# Altium schematic symbol library SamacSys.SchLib: 1311 symbols (part 14 of 14)
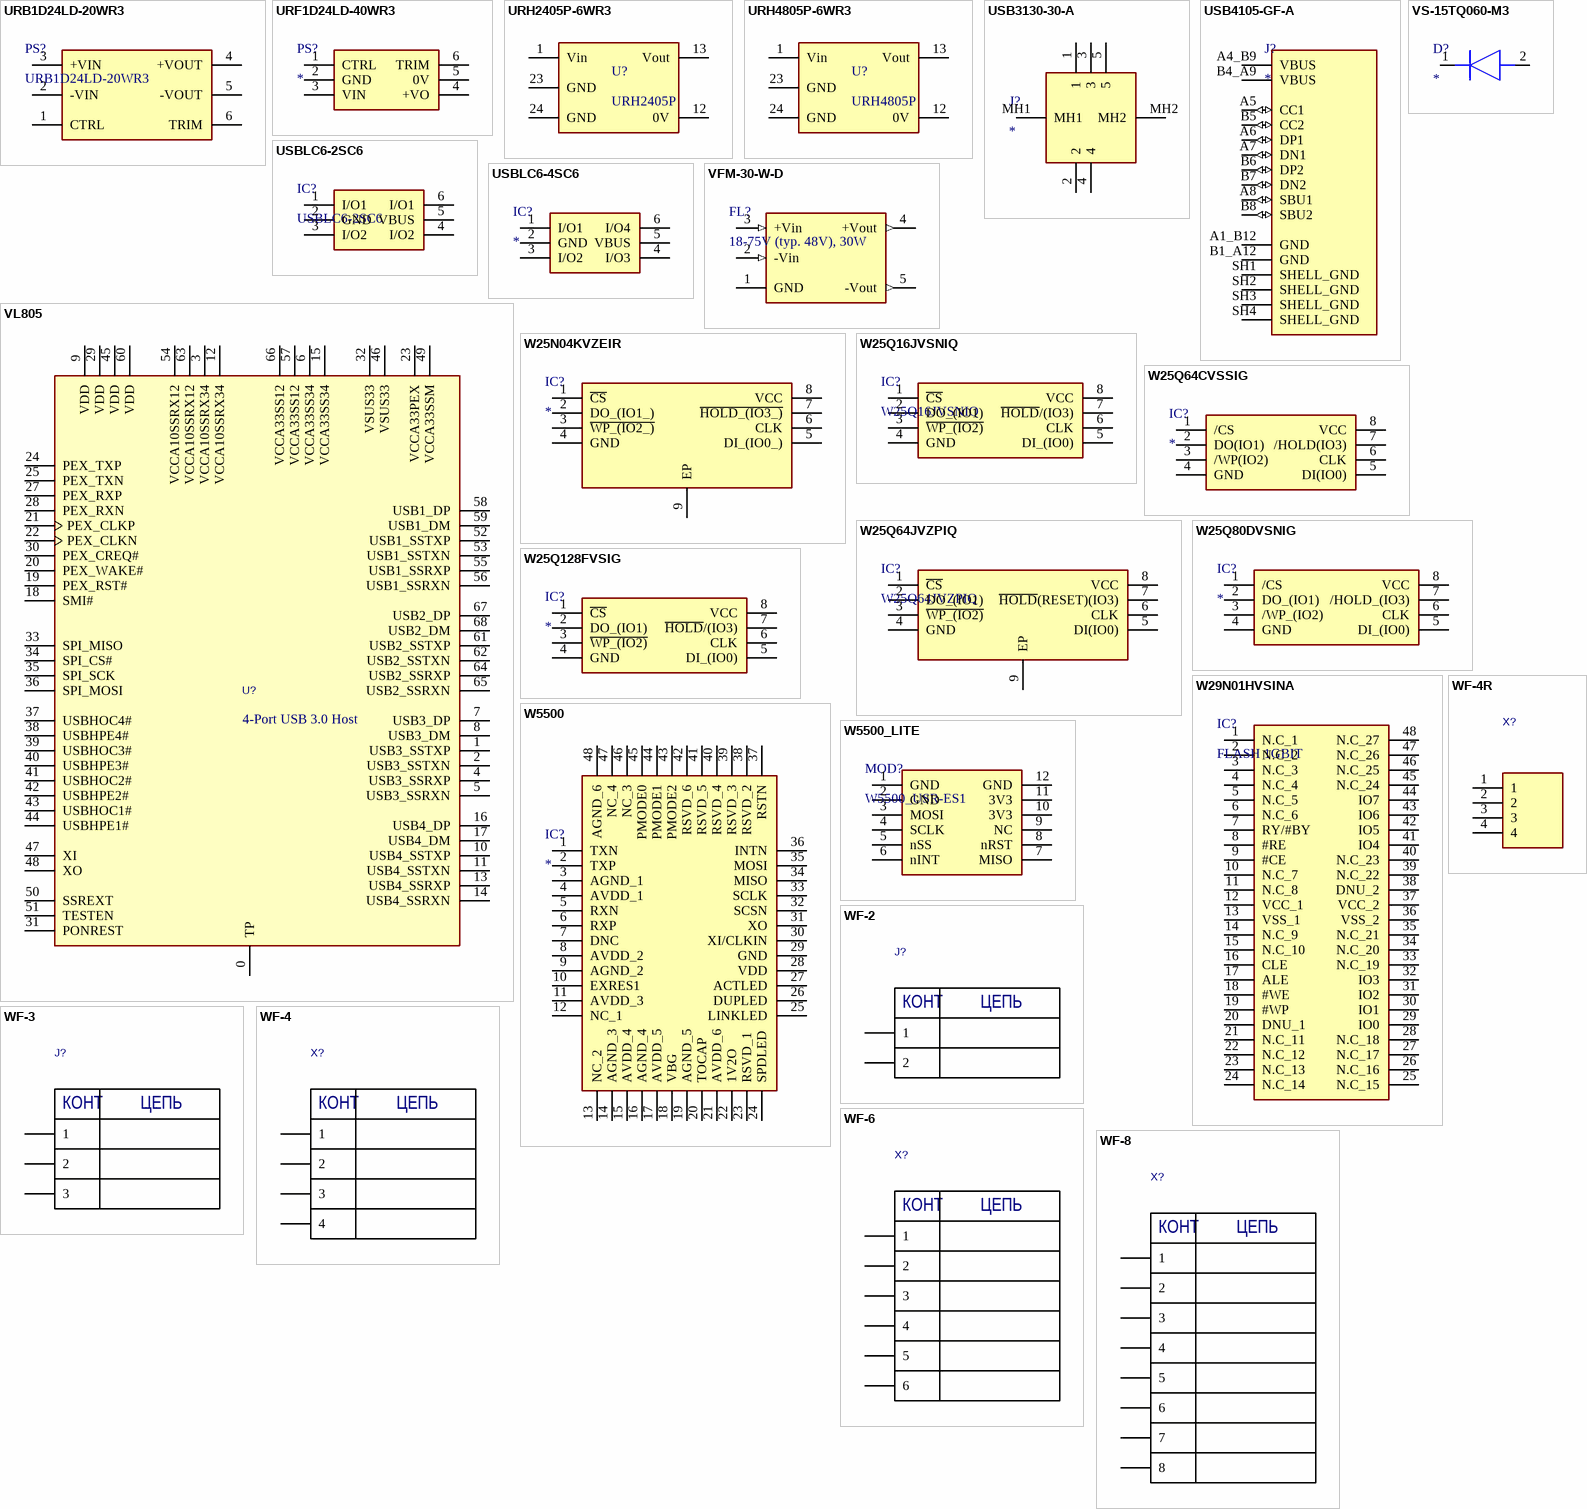
[diagram p63: symbols URB1D24LD-20WR3 to WF-8]

## W25Q128FVSIG
designator IC?
Integrated Circuit; Manufacturer_Name: Winbond; Manufacturer_Part_Number: W25Q128FVSIG; Datasheet Link: https://www.winbond.com/resource-files/w25q128fv rev.m 05132016 kms.pdf; Height: 2.16mm; Mouser Part Number: N/A; Mouser Price/Stock: https://www.mouser.co.uk/ProductDetail/Winbond/W25Q128FVSIG?qs=rkhjVJ6%2F3EIwu4pV702YLQ%3D%3D; Arrow Part Number: W25Q128FVSIG; Arrow Price/Stock: https://www.arrow.com/en/products/w25q128fvsig/winbond-electronics
footprint SOIC127P790X216-8N
pins: 1 ~{CS}, 2 DO_(IO1), 3 ~{WP_(IO2)}, 4 GND, 5 DI_(IO0), 6 CLK, 7 ~{HOLD}/(IO3), 8 VCC

## W29N01HVSINA
designator IC?, comment FLASH 1GBIT
IC FLASH 1GBIT 48-TSOP; Manufacturer_Name: Winbond; Manufacturer_Part_Number: W29N01HVSINA TR; Datasheet Link: https://www.winbond.com/resource-files/W29N01HVxxNA_RevD.pdf; Height: 1.2mm; Mouser Part Number: 454-W29N01HVSINATR; Mouser Price/Stock: https://www.mouser.co.uk/ProductDetail/Winbond/W29N01HVSINA-TR?qs=qSfuJ%252Bfl%2Fd5wnqeklVMn%252Bw%3D%3D; Arrow Part Number: W29N01HVSINA TR; Arrow Price/Stock: https://www.arrow.com/en/products/w29n01hvsina-tr/winbond-electronics?utm_currency=USD&region=nac
footprint SOP50P2000X120-48N
pins: 1 N.C_1, 2 N.C_2, 3 N.C_3, 4 N.C_4, 5 N.C_5, 6 N.C_6, 7 RY/#BY, 8 #RE, 9 #CE, 10 N.C_7, 11 N.C_8, 12 VCC_1, 13 VSS_1, 14 N.C_9, 15 N.C_10, 16 CLE, 17 ALE, 18 #WE, 19 #WP, 20 DNU_1, 21 N.C_11, 22 N.C_12, 23 N.C_13, 24 N.C_14, 25 N.C_15, 26 N.C_16, 27 N.C_17, 28 N.C_18, 29 IO0, 30 IO1, 31 IO2, 32 IO3, 33 N.C_19, 34 N.C_20, 35 N.C_21, 36 VSS_2, 37 VCC_2, 38 DNU_2, 39 N.C_22, 40 N.C_23, 41 IO4, 42 IO5, 43 IO6, 44 IO7, 45 N.C_24, 46 N.C_25, 47 N.C_26, 48 N.C_27

## W5500
designator IC?
Integrated Circuit; Manufacturer_Name: WIZnet Inc; Manufacturer_Part_Number: W5500; Datasheet Link: http://wizwiki.net/wiki/lib/exe/fetch.php?media=products:w5500:w5500_ds_v106e_141230.pdf; Height: 1.6mm; Mouser Part Number: 950-W5500; Mouser Price/Stock: https://www.mouser.co.uk/ProductDetail/WIZnet/W5500?qs=2vh%252B45pPFtzthUpYPd4pqA%3D%3D
footprint QFP50P900X900X160-48N
pins: 1 TXN, 2 TXP, 3 AGND_1, 4 AVDD_1, 5 RXN, 6 RXP, 7 DNC, 8 AVDD_2, 9 AGND_2, 10 EXRES1, 11 AVDD_3, 12 NC_1, 13 NC_2, 14 AGND_3, 15 AVDD_4, 16 AGND_4, 17 AVDD_5, 18 VBG, 19 AGND_5, 20 TOCAP, 21 AVDD_6, 22 1V2O, 23 RSVD_1, 24 SPDLED, 25 LINKLED, 26 DUPLED, 27 ACTLED, 28 VDD, 29 GND, 30 XI/CLKIN, 31 XO, 32 SCSN, 33 SCLK, 34 MISO, 35 MOSI, 36 INTN, 37 RSTN, 38 RSVD_2, 39 RSVD_3, 40 RSVD_4, 41 RSVD_5, 42 RSVD_6, 43 PMODE2, 44 PMODE1, 45 PMODE0, 46 NC_3, 47 NC_4, 48 AGND_6

## W5500_LITE
designator MOD?, comment W5500_USR-ES1
Ethernet module W5500; Manufacturer_Name: WIZnet Inc; Datasheet Link: http://wizwiki.net/wiki/lib/exe/fetch.php?media=products:w5500:w5500_ds_v106e_141230.pdf; Height: 1.6mm; Manufacturer_Part_Number: W5500; Mouser Part Number: 950-W5500; Mouser Price/Stock: https://www.mouser.co.uk/ProductDetail/WIZnet/W5500?qs=2vh%252B45pPFtzthUpYPd4pqA%3D%3D
footprint W5500_LITE
pins: 1 GND, 2 GND, 3 MOSI, 4 SCLK, 5 nSS, 6 nINT, 7 MISO, 8 nRST, 9 NC, 10 3V3, 11 3V3, 12 GND

## WF-2
designator J?  (value not drawn)
Connector; Manufacturer: Connfly; Part Number: WF-6; Part Number1: DS1070-6 M; System: Connector
footprint WF-2 (Footprint not found)
pins: 1, 2
text: КОНТ; ЦЕПЬ

## WF-3
designator J?  (value not drawn)
Connector; Manufacturer: Connfly; Part Number: WF-6; Part Number1: DS1070-6 M; System: Connector
footprint WF-3
pins: 1, 2, 3
text: КОНТ; ЦЕПЬ

## WF-4
designator X?  (value not drawn)
Connector; Manufacturer: Connfly; Part Number: WF-6; Part Number1: DS1070-6 M; System: Connector
footprint WF-4
pins: 1, 2, 3, 4
text: КОНТ; ЦЕПЬ

## WF-4R
designator X?  (value not drawn)
Connector; Manufacturer: Connfly; Part Number: PBD-6; Part Number1: DS-1023 - 2x3; System: Connector
footprint WF-4R (Footprint not found)
pins: 1, 2, 3, 4

## WF-6
designator X?  (value not drawn)
Connector; Manufacturer: Connfly; Part Number1: DS1070-6 M; System: Connector; Part Number: WF-6
footprint WF-6 (Footprint not found)
pins: 1, 2, 3, 4, 5, 6
text: КОНТ; ЦЕПЬ

## WF-8
designator X?  (value not drawn)
Connector; Manufacturer: Connfly; Part Number1: DS1070-8 M; System: Connector; Part Number: WF-8
footprint WF-8
pins: 1, 2, 3, 4, 5, 6, 7, 8
text: КОНТ; ЦЕПЬ

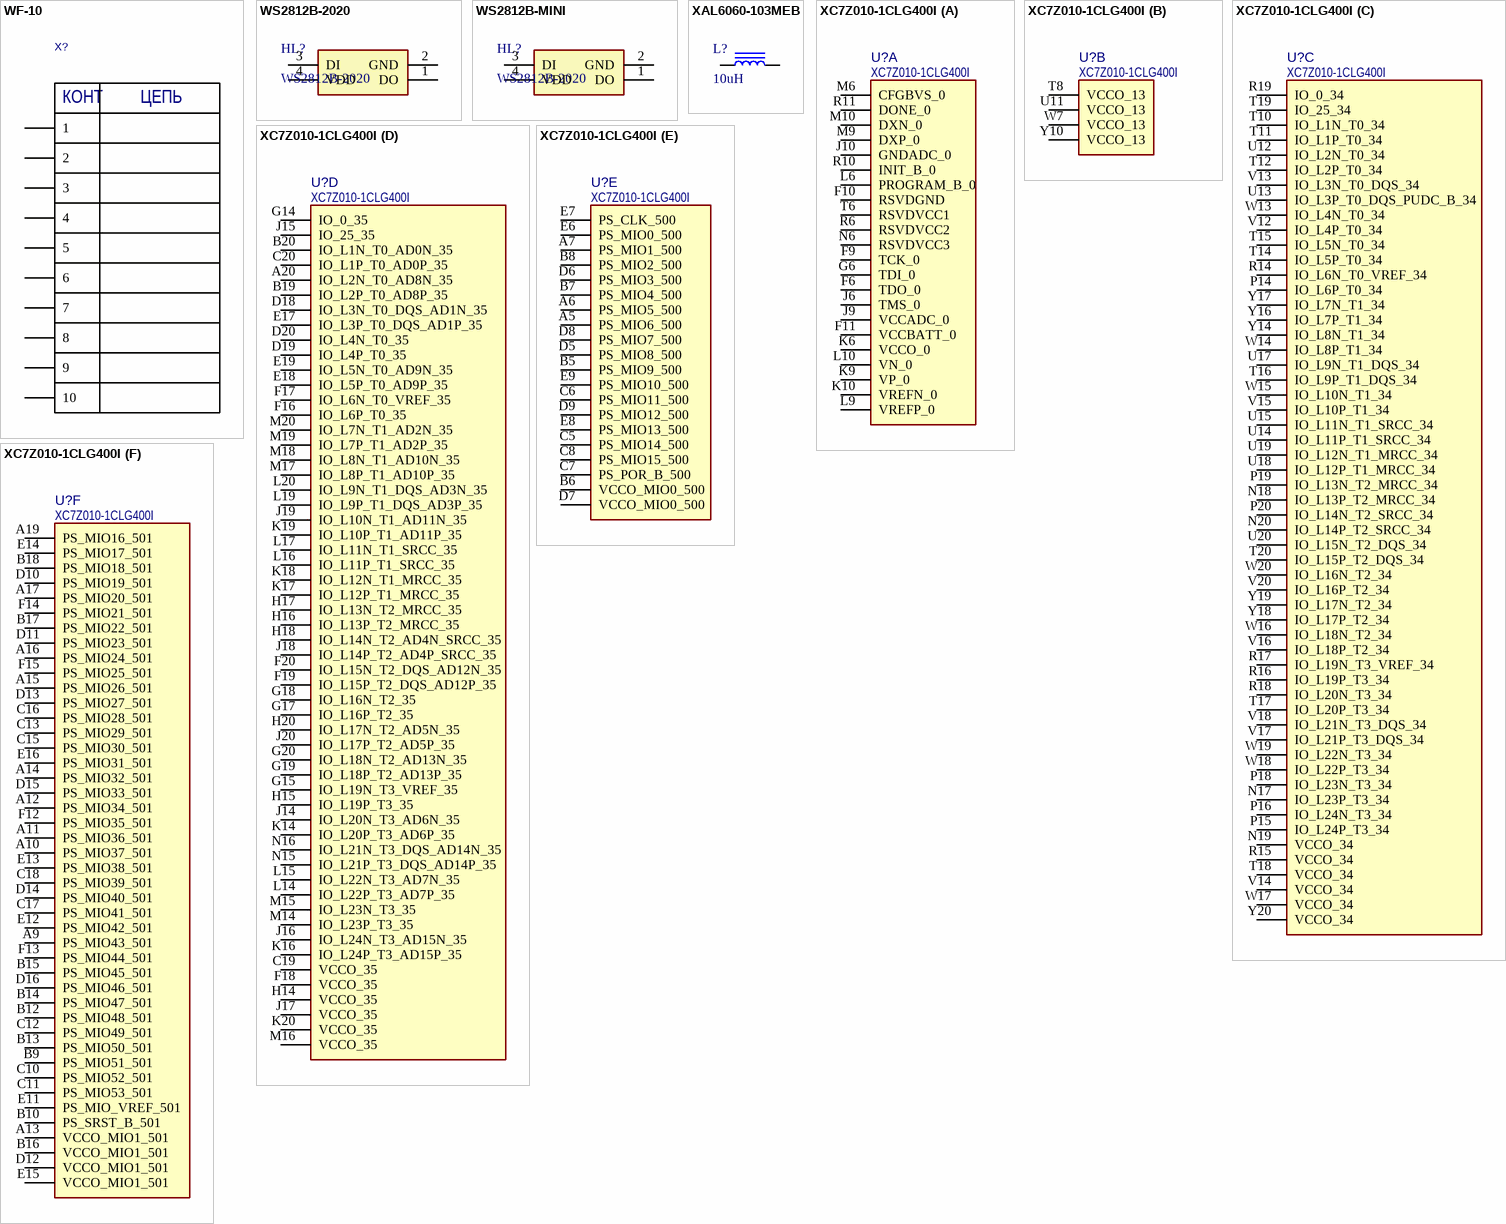
[diagram p49: symbols WF-10 to XC7Z010-1CLG400I]

## WF-10
designator X?  (value not drawn)
Connector; Manufacturer: Connfly; Part Number1: DS1070-10 M; System: Connector; Part Number: WF-10
footprint WF-10 (Footprint not found)
pins: 1, 2, 3, 4, 5, 6, 7, 8, 9, 10
text: КОНТ; ЦЕПЬ

## WS2812B-2020
designator HL?
LED ADDR 2x2mm; Manufacturer_Name: Worldsemi; Manufacturer_Part_Number: WS2812-2020; Datasheet Link: http://www.world-semi.com/DownLoadFile/140; Height: 0.84mm
footprint WS28122020
pins: 1 DO, 2 GND, 3 DI, 4 VDD

## WS2812B-MINI
designator HL?, comment WS2812B-2020
LED ADDR 3,5x3,5mm; Manufacturer_Name: Worldsemi; Manufacturer_Part_Number: WS2812B-MINI; Datasheet Link: http://www.world-semi.com/DownLoadFile/140; Height: 0.84mm
footprint WS28123535 (Footprint not found)
pins: 1 DO, 2 GND, 3 DI, 4 VDD

## XAL6060-103MEB
designator L?, comment 10uH
SMT Inductor; Value: 10uH
footprint XAL6060-103MEB
pins: 1, 2

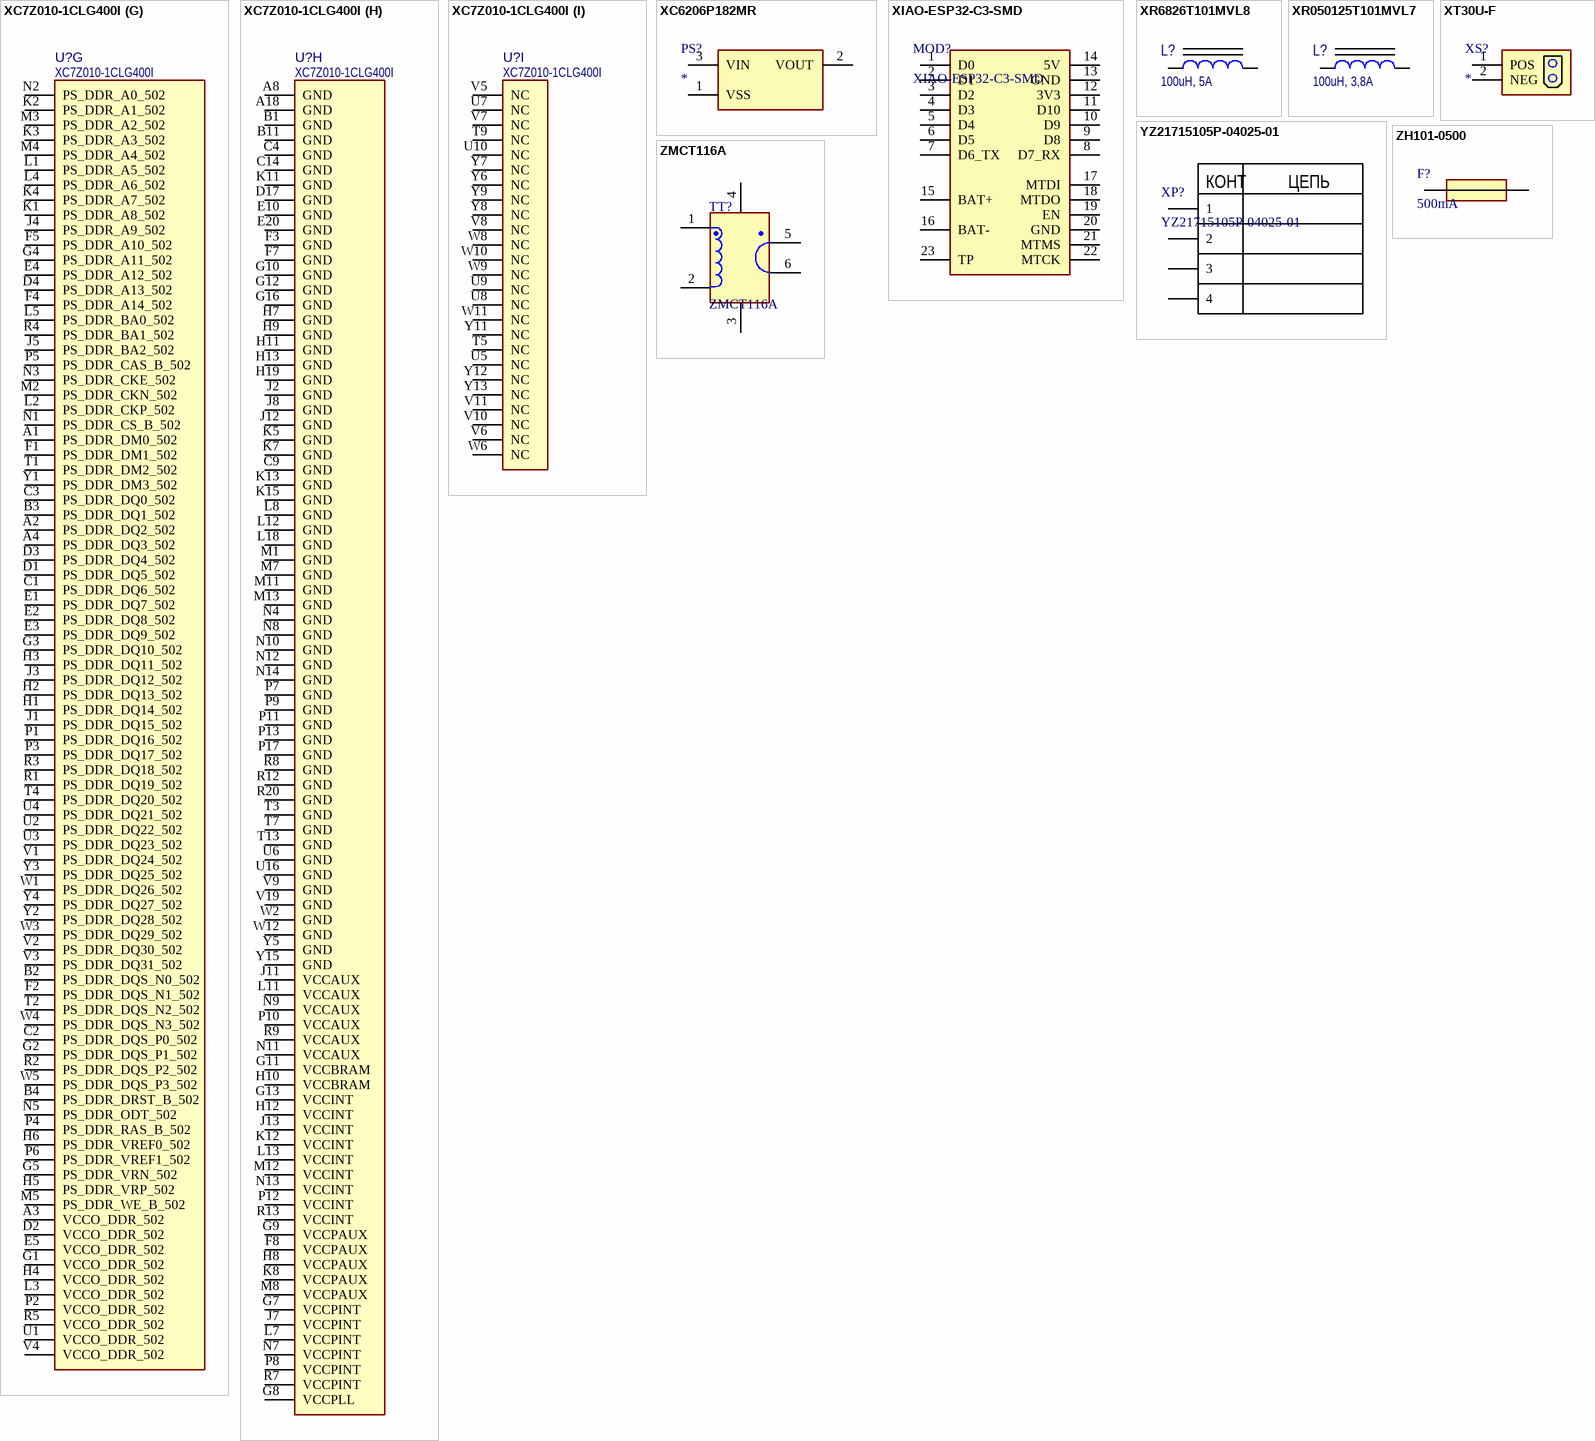
[diagram p50: symbols XC7Z010-1CLG400I to ZMCT116A]

## XC7Z010-1CLG400I
designator U?
Dual ARM® Cortex®-A9 MPCore™ with CoreSight™ System On Chip (SOC) IC Zynq®-7000 Artix™-7 FPGA, 28K Logic Cells 667MHz 400-CSPBGA (17x17); desc: xc7z010clg400; Value: XC7Z010-1CLG400I
footprint CLG400 (CLG400 (XC7Z010, XA7Z010, XC7Z020, XA7Z020), 0.8mm pitch)
part A pins: F6 TDO_0, F9 TCK_0, F10 RSVDGND, F11 VCCBATT_0, G6 TDI_0, J6 TMS_0, J9 VCCADC_0, J10 GNDADC_0, K6 VCCO_0, K9 VP_0, K10 VREFN_0, L6 PROGRAM_B_0, L9 VREFP_0, L10 VN_0, M6 CFGBVS_0, M9 DXP_0, M10 DXN_0, N6 RSVDVCC3, R6 RSVDVCC2, R10 INIT_B_0, R11 DONE_0, T6 RSVDVCC1
part B pins: T8 VCCO_13, U11 VCCO_13, W7 VCCO_13, Y10 VCCO_13
part C pins: N17 IO_L23P_T3_34, N18 IO_L13P_T2_MRCC_34, N19 VCCO_34, N20 IO_L14P_T2_SRCC_34, P14 IO_L6P_T0_34, P15 IO_L24P_T3_34, P16 IO_L24N_T3_34, P18 IO_L23N_T3_34, P19 IO_L13N_T2_MRCC_34, P20 IO_L14N_T2_SRCC_34, R14 IO_L6N_T0_VREF_34, R15 VCCO_34, R16 IO_L19P_T3_34, R17 IO_L19N_T3_VREF_34, R18 IO_L20N_T3_34, R19 IO_0_34, T10 IO_L1N_T0_34, T11 IO_L1P_T0_34, T12 IO_L2P_T0_34, T14 IO_L5P_T0_34, T15 IO_L5N_T0_34, T16 IO_L9P_T1_DQS_34, T17 IO_L20P_T3_34, T18 VCCO_34, T19 IO_25_34, T20 IO_L15P_T2_DQS_34, U12 IO_L2N_T0_34, U13 IO_L3P_T0_DQS_PUDC_B_34, U14 IO_L11P_T1_SRCC_34, U15 IO_L11N_T1_SRCC_34, U17 IO_L9N_T1_DQS_34, U18 IO_L12P_T1_MRCC_34, U19 IO_L12N_T1_MRCC_34, U20 IO_L15N_T2_DQS_34, V12 IO_L4P_T0_34, V13 IO_L3N_T0_DQS_34, V14 VCCO_34, V15 IO_L10P_T1_34, V16 IO_L18P_T2_34, V17 IO_L21P_T3_DQS_34, V18 IO_L21N_T3_DQS_34, V20 IO_L16P_T2_34, W13 IO_L4N_T0_34, W14 IO_L8P_T1_34, W15 IO_L10N_T1_34, W16 IO_L18N_T2_34, W17 VCCO_34, W18 IO_L22P_T3_34, W19 IO_L22N_T3_34, W20 IO_L16N_T2_34, Y14 IO_L8N_T1_34, Y16 IO_L7P_T1_34, Y17 IO_L7N_T1_34, Y18 IO_L17P_T2_34, Y19 IO_L17N_T2_34, Y20 VCCO_34
part D pins: A20 IO_L2N_T0_AD8N_35, B19 IO_L2P_T0_AD8P_35, B20 IO_L1N_T0_AD0N_35, C19 VCCO_35, C20 IO_L1P_T0_AD0P_35, D18 IO_L3N_T0_DQS_AD1N_35, D19 IO_L4P_T0_35, D20 IO_L4N_T0_35, E17 IO_L3P_T0_DQS_AD1P_35, E18 IO_L5P_T0_AD9P_35, E19 IO_L5N_T0_AD9N_35, F16 IO_L6P_T0_35, F17 IO_L6N_T0_VREF_35, F18 VCCO_35, F19 IO_L15P_T2_DQS_AD12P_35, F20 IO_L15N_T2_DQS_AD12N_35, G14 IO_0_35, G15 IO_L19N_T3_VREF_35, G17 IO_L16P_T2_35, G18 IO_L16N_T2_35, G19 IO_L18P_T2_AD13P_35, G20 IO_L18N_T2_AD13N_35, H14 VCCO_35, H15 IO_L19P_T3_35, H16 IO_L13P_T2_MRCC_35, H17 IO_L13N_T2_MRCC_35, H18 IO_L14N_T2_AD4N_SRCC_35, H20 IO_L17N_T2_AD5N_35, J14 IO_L20N_T3_AD6N_35, J15 IO_25_35, J16 IO_L24N_T3_AD15N_35, J17 VCCO_35, J18 IO_L14P_T2_AD4P_SRCC_35, J19 IO_L10N_T1_AD11N_35, J20 IO_L17P_T2_AD5P_35, K14 IO_L20P_T3_AD6P_35, K16 IO_L24P_T3_AD15P_35, K17 IO_L12P_T1_MRCC_35, K18 IO_L12N_T1_MRCC_35, K19 IO_L10P_T1_AD11P_35, K20 VCCO_35, L14 IO_L22P_T3_AD7P_35, L15 IO_L22N_T3_AD7N_35, L16 IO_L11P_T1_SRCC_35, L17 IO_L11N_T1_SRCC_35, L19 IO_L9P_T1_DQS_AD3P_35, L20 IO_L9N_T1_DQS_AD3N_35, M14 IO_L23P_T3_35, M15 IO_L23N_T3_35, M16 VCCO_35, M17 IO_L8P_T1_AD10P_35, M18 IO_L8N_T1_AD10N_35, M19 IO_L7P_T1_AD2P_35, M20 IO_L7N_T1_AD2N_35, N15 IO_L21P_T3_DQS_AD14P_35, N16 IO_L21N_T3_DQS_AD14N_35
part E pins: A5 PS_MIO6_500, A6 PS_MIO5_500, A7 PS_MIO1_500, B5 PS_MIO9_500, B6 VCCO_MIO0_500, B7 PS_MIO4_500, B8 PS_MIO2_500, C5 PS_MIO14_500, C6 PS_MIO11_500, C7 PS_POR_B_500, C8 PS_MIO15_500, D5 PS_MIO8_500, D6 PS_MIO3_500, D7 VCCO_MIO0_500, D8 PS_MIO7_500, D9 PS_MIO12_500, E6 PS_MIO0_500, E7 PS_CLK_500, E8 PS_MIO13_500, E9 PS_MIO10_500
part F pins: A9 PS_MIO43_501, A10 PS_MIO37_501, A11 PS_MIO36_501, A12 PS_MIO34_501, A13 VCCO_MIO1_501, A14 PS_MIO32_501, A15 PS_MIO26_501, A16 PS_MIO24_501, A17 PS_MIO20_501, A19 PS_MIO16_501, B9 PS_MIO51_501, B10 PS_SRST_B_501, B12 PS_MIO48_501, B13 PS_MIO50_501, B14 PS_MIO47_501, B15 PS_MIO45_501, B16 VCCO_MIO1_501, B17 PS_MIO22_501, B18 PS_MIO18_501, C10 PS_MIO52_501, C11 PS_MIO53_501, C12 PS_MIO49_501, C13 PS_MIO29_501, C15 PS_MIO30_501, C16 PS_MIO28_501, C17 PS_MIO41_501, C18 PS_MIO39_501, D10 PS_MIO19_501, D11 PS_MIO23_501, D12 VCCO_MIO1_501, D13 PS_MIO27_501, D14 PS_MIO40_501, D15 PS_MIO33_501, D16 PS_MIO46_501, E11 PS_MIO_VREF_501, E12 PS_MIO42_501, E13 PS_MIO38_501, E14 PS_MIO17_501, E15 VCCO_MIO1_501, E16 PS_MIO31_501, F12 PS_MIO35_501, F13 PS_MIO44_501, F14 PS_MIO21_501, F15 PS_MIO25_501
part G pins: A1 PS_DDR_DM0_502, A2 PS_DDR_DQ2_502, A3 VCCO_DDR_502, A4 PS_DDR_DQ3_502, B2 PS_DDR_DQS_N0_502, B3 PS_DDR_DQ1_502, B4 PS_DDR_DRST_B_502, C1 PS_DDR_DQ6_502, C2 PS_DDR_DQS_P0_502, C3 PS_DDR_DQ0_502, D1 PS_DDR_DQ5_502, D2 VCCO_DDR_502, D3 PS_DDR_DQ4_502, D4 PS_DDR_A13_502, E1 PS_DDR_DQ7_502, E2 PS_DDR_DQ8_502, E3 PS_DDR_DQ9_502, E4 PS_DDR_A12_502, E5 VCCO_DDR_502, F1 PS_DDR_DM1_502, F2 PS_DDR_DQS_N1_502, F4 PS_DDR_A14_502, F5 PS_DDR_A10_502, G1 VCCO_DDR_502, G2 PS_DDR_DQS_P1_502, G3 PS_DDR_DQ10_502, G4 PS_DDR_A11_502, G5 PS_DDR_VRN_502, H1 PS_DDR_DQ14_502, H2 PS_DDR_DQ13_502, H3 PS_DDR_DQ11_502, H4 VCCO_DDR_502, H5 PS_DDR_VRP_502, H6 PS_DDR_VREF0_502, J1 PS_DDR_DQ15_502, J3 PS_DDR_DQ12_502, J4 PS_DDR_A9_502, J5 PS_DDR_BA2_502, K1 PS_DDR_A8_502, K2 PS_DDR_A1_502, K3 PS_DDR_A3_502, K4 PS_DDR_A7_502, L1 PS_DDR_A5_502, L2 PS_DDR_CKP_502, L3 VCCO_DDR_502, L4 PS_DDR_A6_502, L5 PS_DDR_BA0_502, M2 PS_DDR_CKN_502, M3 PS_DDR_A2_502, M4 PS_DDR_A4_502, M5 PS_DDR_WE_B_502, N1 PS_DDR_CS_B_502, N2 PS_DDR_A0_502, N3 PS_DDR_CKE_502, N5 PS_DDR_ODT_502, P1 PS_DDR_DQ16_502, P2 VCCO_DDR_502, P3 PS_DDR_DQ17_502, P4 PS_DDR_RAS_B_502, P5 PS_DDR_CAS_B_502, P6 PS_DDR_VREF1_502, R1 PS_DDR_DQ19_502, R2 PS_DDR_DQS_P2_502, R3 PS_DDR_DQ18_502, R4 PS_DDR_BA1_502, R5 VCCO_DDR_502, T1 PS_DDR_DM2_502, T2 PS_DDR_DQS_N2_502, T4 PS_DDR_DQ20_502, U1 VCCO_DDR_502, U2 PS_DDR_DQ22_502, U3 PS_DDR_DQ23_502, U4 PS_DDR_DQ21_502, V1 PS_DDR_DQ24_502, V2 PS_DDR_DQ30_502, V3 PS_DDR_DQ31_502, V4 VCCO_DDR_502, W1 PS_DDR_DQ26_502, W3 PS_DDR_DQ29_502, W4 PS_DDR_DQS_N3_502, W5 PS_DDR_DQS_P3_502, Y1 PS_DDR_DM3_502, Y2 PS_DDR_DQ28_502, Y3 PS_DDR_DQ25_502, Y4 PS_DDR_DQ27_502
part H pins: A8 GND, A18 GND, B1 GND, B11 GND, C4 GND, C9 GND, C14 GND, D17 GND, E10 GND, E20 GND, F3 GND, F7 GND, F8 VCCPAUX, G7 VCCPINT, G8 VCCPLL, G9 VCCPAUX, G10 GND, G11 VCCBRAM, G12 GND, G13 VCCINT, G16 GND, H7 GND, H8 VCCPAUX, H9 GND, H10 VCCBRAM, H11 GND, H12 VCCINT, H13 GND, H19 GND, J2 GND, J7 VCCPINT, J8 GND, J11 VCCAUX, J12 GND, J13 VCCINT, K5 GND, K7 GND, K8 VCCPAUX, K11 GND, K12 VCCINT, K13 GND, K15 GND, L7 VCCPINT, L8 GND, L11 VCCAUX, L12 GND, L13 VCCINT, L18 GND, M1 GND, M7 GND, M8 VCCPAUX, M11 GND, M12 VCCINT, M13 GND, N4 GND, N7 VCCPINT, N8 GND, N9 VCCAUX, N10 GND, N11 VCCAUX, N12 GND, N13 VCCINT, N14 GND, P7 GND, P8 VCCPINT, P9 GND, P10 VCCAUX, P11 GND, P12 VCCINT, P13 GND, P17 GND, R7 VCCPINT, R8 GND, R9 VCCAUX, R12 GND, R13 VCCINT, R20 GND, T3 GND, T7 GND, T13 GND, U6 GND, U16 GND, V9 GND, V19 GND, W2 GND, W12 GND, Y5 GND, Y15 GND
part I pins: T5 NC, T9 NC, U5 NC, U7 NC, U8 NC, U9 NC, U10 NC, V5 NC, V6 NC, V7 NC, V8 NC, V10 NC, V11 NC, W6 NC, W8 NC, W9 NC, W10 NC, W11 NC, Y6 NC, Y7 NC, Y8 NC, Y9 NC, Y11 NC, Y12 NC, Y13 NC

## XC6206P182MR
designator PS?
Power Supply; Manufacturer_Name: Torex; Manufacturer_Part_Number: XC6206P182MR; Datasheet Link: https://componentsearchengine.com/Datasheets/2/XC6206P182MR.pdf; Height: 1.3mm
footprint SOT95P280X130-3N
pins: 1 VSS, 2 VOUT, 3 VIN

## XIAO-ESP32-C3-SMD
designator MOD?
MODULE XIAO-ESP32-C3-SMD; Manufacturer_Name: SeedStudio; Datasheet Link: http://wizwiki.net/wiki/lib/exe/fetch.php?media=products:w5500:w5500_ds_v106e_141230.pdf; Height: 1.6mm; Manufacturer_Part_Number: XIAO-ESP32-C3-SMD
footprint XIAO-ESP32-C3-SMD
pins: 1 D0, 2 D1, 3 D2, 4 D3, 5 D4, 6 D5, 7 D6_TX, 8 D7_RX, 9 D8, 10 D9, 11 D10, 12 3V3, 13 GND, 14 5V, 15 BAT+, 16 BAT-, 17 MTDI, 18 MTDO, 19 EN, 20 GND, 21 MTMS, 22 MTCK, 23 TP

## XR6826T101MVL8
designator L?, comment 100uH, 5A
Inductor, 100uH, 5A; Manufacturer: XR; Manufacturer Part Number: XR6826T101MVL8; LCSC: C22447609
footprint XR6826
pins: 1, 2

## XR050125T101MVL7
designator L?, comment 100uH, 3,8A
Inductor, 100uH, 3.8A; Manufacturer: XR; Manufacturer Part Number: XR050125T101MVL7; LCSC: C18213920
footprint XR050125
pins: 1, 2

## XT30U-F
designator XS?
Connector, Power; Manufacturer_Part_Number: XT30U-F; w: Amass; Datasheet Link: https://static.chipdip.ru/lib/579/DOC047579742.pdf; Height: 10.7mm
footprint XT30PB
pins: 1 POS, 2 NEG

## YZ21715105P-04025-01
designator XP?
Connector, Pogo Pin; Manufacturer_Name: Xinyangze; Datasheet Link: https://jlcpcb.com/partdetail/Xinyangze-YZ21715105P_0402501/C5200687; Manufacturer_Part_Number: YZ21715105P-04025-01; Arrow Part Number: S4B-PH-SM4-TB(LF)(SN); Arrow Price/Stock: https://www.arrow.com/en/products/s4b-ph-sm4-tb-lf-sn/jst-manufacturing; System: Connector
footprint YZ21715105P (Footprint not found)
pins: 1, 2, 3, 4
text: КОНТ; ЦЕПЬ

## ZH101-0500
designator F?, comment 500mA
Micro Fuse. 250V, 500mA; Manufacturer_Name: Zhen Hui Electronics; Manufacturer_Part_Number: ZH101-0500; Datasheet Link: http://en.chinafuse.com/Product/MICRO-FUSE-FAST-BLOW-_2716.html; Height: 10.45mm
footprint ZH101 (Footprint not found)
pins: 1, 2

## ZMCT116A
designator TT?
Current Transformer, 1:2500; Manufacturer: Qingxian Zeming; Part Number: ZMCT116A
footprint ZMCT116A_TH (Current Cransformer)
footprint ZMCT116A_AIR (Current Cransformer)
pins: 1, 2, 3, 4, 5, 6